# Altium schematic symbol library DI_LED_RED.SchLib: 3 symbols
Pins are listed as number, name and electrical type; pins without a type are passive.

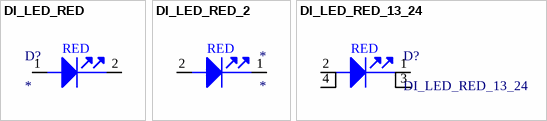
[diagram p0: symbols DI_LED_RED to DI_LED_RED_13_24]

## DI_LED_RED
designator D?
pins: 1 A, 2 C
text: RED

## DI_LED_RED_2
designator *
pins: 1 A, 2 C
text: RED

## DI_LED_RED_13_24
designator D?
pins: 1 C, 2 A, 3 C, 4 A
text: RED